# Altium footprint library MicroLPR_DSP.PcbLib: 41 footprints (part 3 of 3)
Each footprint in its own frame and in the unit in brackets; x right, y up, seen from the top. Pads: shape width x height; smd on the part's side, far side on the other; paste and mask are expansions set on the pad; w line width, h text height; cw(c..) or ccw(c..) is an arc to the next point about the centre after c.
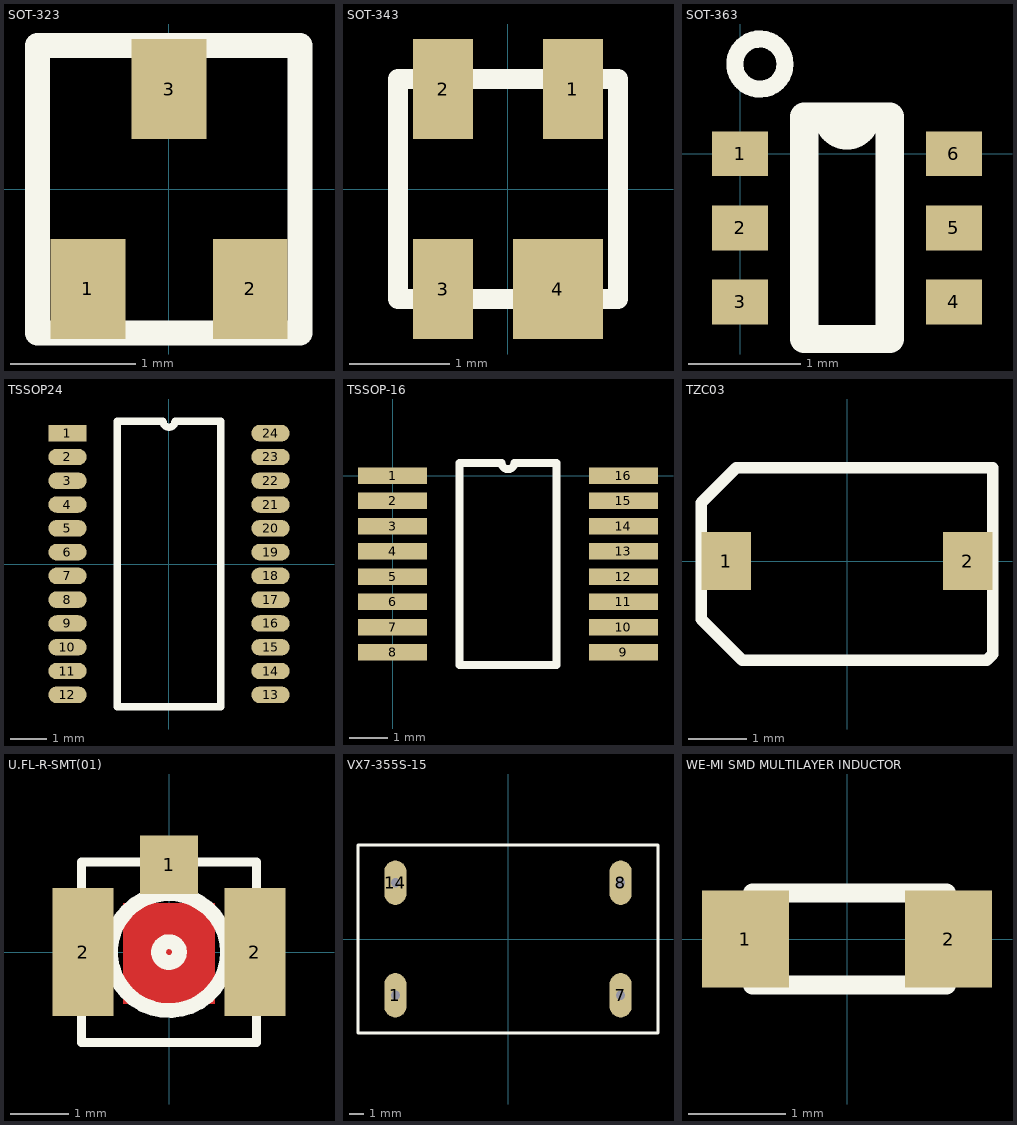
[diagram p2: the footprints below, top view; thin cyan lines are the x and y axes]

## SOT-323 [mm]
pads (3):
  rect 0.6x0.8 smd: 1(-0.65,-0.8) 2(0.65,-0.8) 3(0,0.8)
Top Overlay:
  lines w0.2: -1.05,-1.15 -1.05,1.15 1.05,1.15 1.05,-1.15 -1.05,-1.15
3D body "sot-323.step": height 1, standoff 0, extent -1.05,-1.15 1.05,1.15

## SOT-343 [mm]
pads (4):
  rect 0.6x1 smd: 1(0.65,1) 2(-0.65,1) 3(-0.65,-1)
  rect 0.9x1 smd: 4(0.5,-1)
Top Overlay:
  lines w0.2: -1.1,-1.1 -1.1,1.1 1.1,1.1 1.1,-1.1 -1.1,-1.1
3D body "SOT343-1.step": height 1, standoff 0, extent -1.1,-1.1 1.1,1.1

## SOT-363 [mm]
height 1.1
pads (6):
  rect 0.5x0.4 smd: 1(0,0) 2(0,-0.66) 3(0,-1.321) 4(1.905,-1.321) 5(1.905,-0.66) 6(1.905,0)
Top Overlay:
  circle w0.152: c0.176,0.8 r0.224
  lines w0.254: 0.572,-1.651 1.333,-1.651 1.333,0.33 0.787,0.33 ccw(c0.953,0.33) 1.118,0.33 0.572,0.33 0.572,-1.651
3D body: height 1, standoff 0, extent 0.445,-1.778 1.46,0.457

## TSSOP24 [mm]
pads (24):
  rect 1.05x0.45 smd: 1(-2.775,3.575)
  oval 1.05x0.45 smd: 2(-2.775,2.925) 3(-2.775,2.275) 4(-2.775,1.625) 5(-2.775,0.975) 6(-2.775,0.325) 7(-2.775,-0.325) 8(-2.775,-0.975) 9(-2.775,-1.625) 10(-2.775,-2.275) 11(-2.775,-2.925) 12(-2.775,-3.575) 13(2.775,-3.575) 14(2.775,-2.925) 15(2.775,-2.275) 16(2.775,-1.625) 17(2.775,-0.975) 18(2.775,-0.325) 19(2.775,0.325) 20(2.775,0.975) 21(2.775,1.625) 22(2.775,2.275) 23(2.775,2.925) 24(2.775,3.575)
Top Overlay:
  lines w0.2: -1.415,-3.9 -1.415,3.9 -0.162,3.9 ccw(c0,3.9) 0.162,3.9 1.415,3.9 1.415,-3.9 -1.415,-3.9
3D body "TSSOP-24.STEP": height 1.2, standoff 0, extent -3.2,-3.9 3.2,3.9

## TSSOP-16 [mm]
pads (16):
  rect 1.78x0.42 smd: 1(0,0) 2(0,-0.65) 3(0,-1.3) 4(0,-1.95) 5(0,-2.6) 6(0,-3.25) 7(0,-3.9) 8(0,-4.55) 9(5.94,-4.55) 10(5.94,-3.9) 11(5.94,-3.25) 12(5.94,-2.6) 13(5.94,-1.95) 14(5.94,-1.3) 15(5.94,-0.65) 16(5.94,0)
Top Overlay:
  lines w0.2: 1.725,-4.875 4.215,-4.875 4.215,0.325 3.132,0.325 cw(c2.97,0.325) 2.808,0.325 1.725,0.325 1.725,-4.875
3D body: height 1.2, standoff 0, extent 0.975,-4.775 4.975,0.225

## TZC03 [mm]
pads (2):
  rect 0.85x1 smd: 1(-2.075,0) 2(2.075,0)
Top Overlay:
  lines w0.2: -2.5,-1 -1.8,-1.7 2.4,-1.7 2.5,-1.6 2.5,1.6 0,1.6 -1.9,1.6 -2.5,1 -2.5,-1

## U.FL-R-SMT(01) [mm] "U.FL Receptacle Hirose Nr. CL331-0471-0 (U.FL-R-SMT(01))"
height 0.032
pads (3):
  rect 1x1 smd: 1(0,1.5)
  rect 1.05x2.2 smd: 2(-1.475,0) 2(1.475,0)
Top Layer:
  pour cut-out: -0.787,0.838 0.787,0.838 0.787,-0.889 -0.787,-0.889
Top Overlay:
  circle w0.254: c0,0 r1.005
  circle w0.254: c0,0 r0.18
  lines w0.152: -1.5,-1.55 1.5,-1.55 1.5,1.55 -1.5,1.55 -1.5,-1.55
3D body: height 0.1, standoff 0, extent -0.152,-1.549 0.152,-1.295
3D body: height 0.1, standoff 0, extent -0.152,-0.152 0.152,1.549
3D body: height 0.2, standoff 0, extent 1.295,-0.914 1.499,0.914
3D body: height 0.2, standoff 0, extent -1.499,-0.914 -1.295,0.914
3D body: height 0.35, standoff 0.1, extent -1.295,-1.295 1.295,1.295
3D body: height 1.25, standoff 0.35, extent -0.992,-0.998 1,0.998

## VX7-355S-15 [mm]
pads (4):
  oval 1.5x3 hole 0.625: 1(-7.62,-3.81) 7(7.62,-3.81) 8(7.62,3.81) 14(-7.62,3.81)
Top Overlay:
  lines w0.2: -10.15,-6.375 10.15,-6.375 10.15,6.375 -10.15,6.375 -10.15,-6.375
3D body "OSC_DIP-14.step": height 4.6, standoff -2, extent -10.1,-6.35 10.1,6.35

## WE-MI SMD MULTILAYER INDUCTOR [mm]
pads (2):
  rect 0.9x1 smd: 1(-1.05,0) 2(1.05,0)
Top Overlay:
  lines w0.2: -0.975,-0.475 -0.975,0.475 1.025,0.475 1.025,-0.475 -0.975,-0.475
3D body "ind_0805.step": height 1.2, standoff 0, extent -0.975,-0.475 1.025,0.475